# Altium integrated library ABM3B-25.000MHZ-10-1-U-T.IntLib: 1 symbol
Pins are listed as number, name and electrical type; pins without a type are passive.

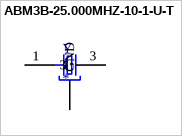
[diagram p0: symbol ABM3B-25.000MHZ-10-1-U-T]

## ABM3B-25.000MHZ-10-1-U-T
designator Y
25MHz Â±10ppm Crystal 10pF 50 Ohms 4-SMD, No Lead; MF: Abracon; MP: ABM3B-25.000MHZ-10-1-U-T; Value: *; Availability: Unavailable; Package: SMD-4 Abracon; SnapEDA_Link: https://www.snapeda.com/parts/ABM3B-25.000MHZ-10-1-U-T/Abracon%20LLC/view-part/425314/?ref=snap; Price: None
footprint OSCCC500X320X110-4N
pins: 1, 2 GND, 3, 4 GND